# Altium integrated library GRM188R60J476ME15D.IntLib: 1 symbol
Pins are listed as number, name and electrical type; pins without a type are passive.

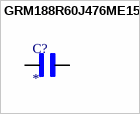
[diagram p0: symbol GRM188R60J476ME15D]

## GRM188R60J476ME15D
designator C?
SMD capacitor X5R(EIA) with capacitance 47uF Tol.20%. Rated voltage 6.3Vdc 85C; MF: Murata; MP: GRM188R60J476ME15D; SnapEDA_Link: https://www.snapeda.com/parts/GRM188R60J476ME15D/Murata/view-part/?ref=snap; Package: 1608 Murata; Value: *; Check_prices: https://www.snapeda.com/parts/GRM188R60J476ME15D/Murata/view-part/?ref=eda
footprint CAPC1608X100N
pins: 1, 2